# EAGLE library part ATMEGA328P-AU (library One_Dimensional_Pong)
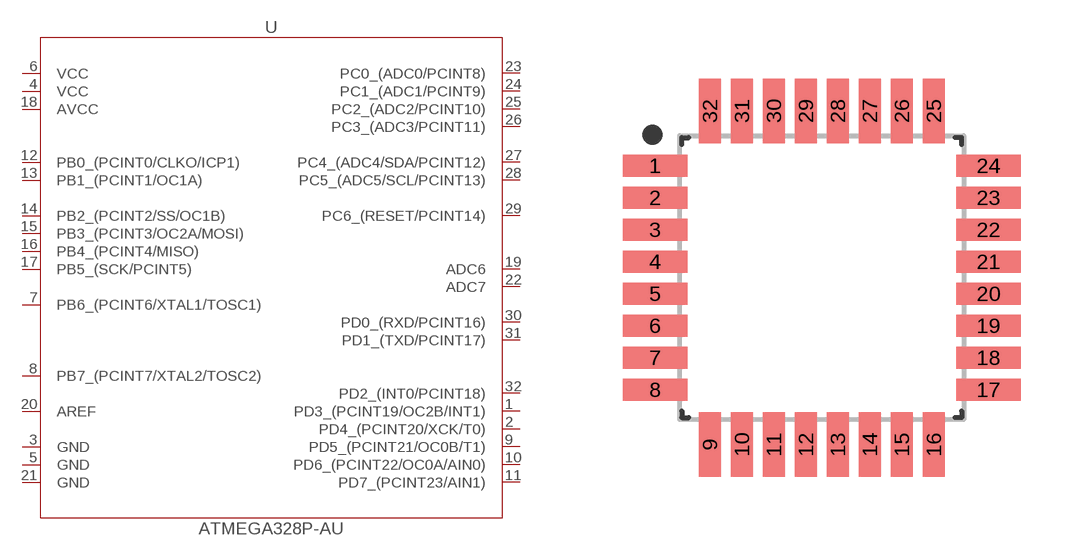
[diagram p1: symbol with the pads of QFP80P897X897X120-32; footprint QFP80P897X897X120-32]

Designator prefix U

## ATMEGA328P-AU32-QFP (MANUFACTURER_PART_NUMBER: ATMEGA328PAU; VENDOR: Atmel)  [QFP80P897X897X120-32]
1  PD3_(PCINT19/OC2B/INT1)
2  PD4_(PCINT20/XCK/T0)
3  GND  pwr
4  VCC  pwr
5  GND  pwr
6  VCC  pwr
7  PB6_(PCINT6/XTAL1/TOSC1)
8  PB7_(PCINT7/XTAL2/TOSC2)
9  PD5_(PCINT21/OC0B/T1)
10  PD6_(PCINT22/OC0A/AIN0)
11  PD7_(PCINT23/AIN1)
12  PB0_(PCINT0/CLKO/ICP1)
13  PB1_(PCINT1/OC1A)
14  PB2_(PCINT2/SS/OC1B)
15  PB3_(PCINT3/OC2A/MOSI)
16  PB4_(PCINT4/MISO)
17  PB5_(SCK/PCINT5)
18  AVCC  pwr
19  ADC6  in
20  AREF  pas
21  GND  pwr
22  ADC7  in
23  PC0_(ADC0/PCINT8)
24  PC1_(ADC1/PCINT9)
25  PC2_(ADC2/PCINT10)
26  PC3_(ADC3/PCINT11)
27  PC4_(ADC4/SDA/PCINT12)
28  PC5_(ADC5/SCL/PCINT13)
29  PC6_(RESET/PCINT14)
30  PD0_(RXD/PCINT16)
31  PD1_(TXD/PCINT17)
32  PD2_(INT0/PCINT18)

## Footprint QFP80P897X897X120-32 (pad centres in mm)
32-QFP, 0.80 mm pitch, 8.97 mm span, 7.00 X 7.00 X 1.20 mm body 32-pin QFP package with 0.80 mm pitch, 8.97 mm lead span1 X 8.97 mm lead span2 with body size 7.00 X 7.00 X 1.20 mm
smd 1.621 x 0.547: 1 -4.17,2.8; 2 -4.17,2; 3 -4.17,1.2; 4 -4.17,0.4; 5 -4.17,-0.4; 6 -4.17,-1.2; 7 -4.17,-2; 8 -4.17,-2.8; 17 4.17,-2.8; 18 4.17,-2; 19 4.17,-1.2; 20 4.17,-0.4; 21 4.17,0.4; 22 4.17,1.2; 23 4.17,2; 24 4.17,2.8
smd 0.547 x 1.621: 9 -2.8,-4.17; 10 -2,-4.17; 11 -1.2,-4.17; 12 -0.4,-4.17; 13 0.4,-4.17; 14 1.2,-4.17; 15 2,-4.17; 16 2.8,-4.17; 25 2.8,4.17; 26 2,4.17; 27 1.2,4.17; 28 0.4,4.17; 29 -0.4,4.17; 30 -1.2,4.17; 31 -2,4.17; 32 -2.8,4.17